# EAGLE library part ATTINY412/212 (library Synapseware-avr)
ATtiny212/412 20MHz tinyAVR 1-Series AVR Microcontroller
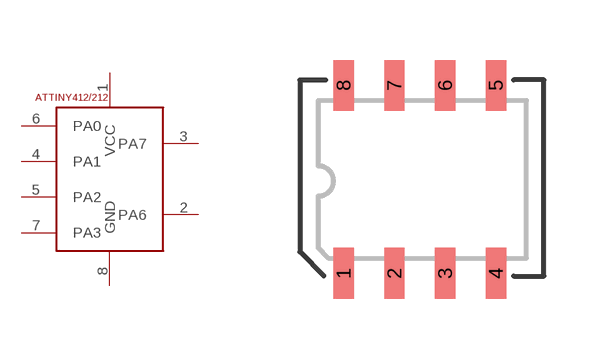
[diagram p1: symbol with the pads of SOIC-8-150; footprint SOIC-8-150]

Designator prefix -

## ATTINY412/212SOIC-8-150  [SOIC-8-150]
1  VCC
2  PA6
3  PA7
4  PA1
5  PA2
6  PA0
7  PA3
8  GND

## Footprint SOIC-8-150 (pad centres in mm)
smd 0.508 x 1.27: 1 -2.159,-2.159; 2 -0.889,-2.159; 3 0.381,-2.159; 4 1.651,-2.159; 5 1.651,2.54; 6 0.381,2.54; 7 -0.889,2.54; 8 -2.159,2.54